# Altium schematic symbol library UOMP_IC.SchLib: 20 symbols
Pins are listed as number, name and electrical type; pins without a type are passive.

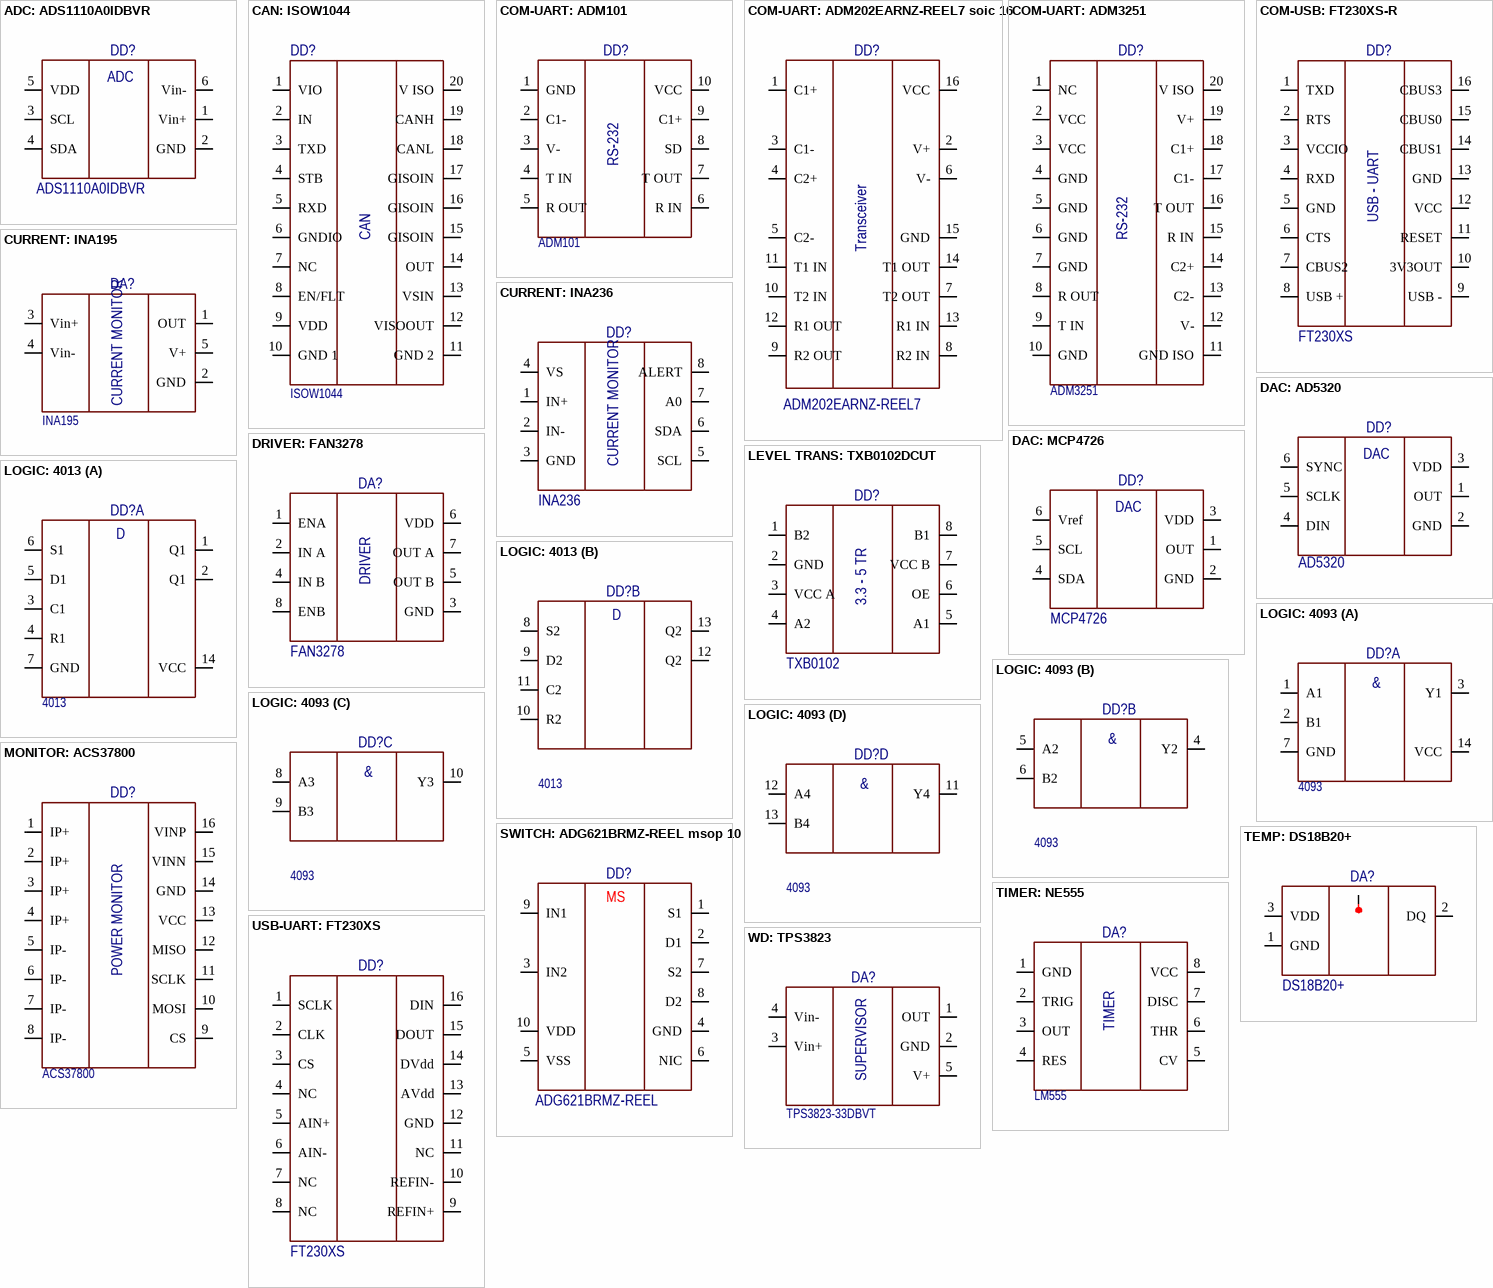
[diagram p0: symbols ADC: ADS1110A0IDBVR to WD: TPS3823]

## ADC: ADS1110A0IDBVR
designator DD?, comment ADS1110A0IDBVR
Name: Микросхема ADS1110A0IDBVR, TI; Code: 6339120701
footprint IC: SOT 23 6pin
pins: 1 Vin+, 2 GND, 3 SCL, 4 SDA, 5 VDD, 6 Vin-
text: ADC

## CAN: ISOW1044
designator DD?, comment ISOW1044
Code: 6349993361; Name: Микросхема ISOW1044DFMR, TI
footprint IC: SOIC 20 wide
pins: 1 VIO, 2 IN, 3 TXD, 4 STB, 5 RXD, 6 GNDIO, 7 NC, 8 EN/FLT, 9 VDD, 10 GND 1, 11 GND 2, 12 VISOOUT, 13 VSIN, 14 OUT, 15 GISOIN, 16 GISOIN, 17 GISOIN, 18 CANL, 19 CANH, 20 V ISO
text: CAN

## COM-UART: ADM101
designator DD?, comment ADM101
Code: 6335421011; Name: Микросхема ADM101EARM, AD
footprint IC: MSOP 10
pins: 1 GND, 2 C1-, 3 V-, 4 T IN, 5 R OUT, 6 R IN, 7 T OUT, 8 SD, 9 C1+, 10 VCC
text: RS-232

## COM-UART: ADM202EARNZ-REEL7 soic 16
designator DD?, comment ADM202EARNZ-REEL7
Code: 6335422203; Name: Микросхема ADM202EARNZ-REEL7
footprint IC: SOIC 16 (SOIC, 16-Leads, Body 10,0x4,0mm (max), Pitch 1,27mm, IPC Medium Density)
pins: 1 C1+, 2 V+, 3 C1-, 4 C2+, 5 C2-, 6 V-, 7 T2 OUT, 8 R2 IN, 9 R2 OUT, 10 T2 IN, 11 T1 IN, 12 R1 OUT, 13 R1 IN, 14 T1 OUT, 15 GND, 16 VCC
text: Transceiver

## COM-UART: ADM3251
designator DD?, comment ADM3251
Code: 6330003941; Name: Микросхема ADM3251EARWZ, AD
footprint IC: SOIC 20 wide
pins: 1 NC, 2 VCC, 3 VCC, 4 GND, 5 GND, 6 GND, 7 GND, 8 R OUT, 9 T IN, 10 GND, 11 GND ISO, 12 V-, 13 C2-, 14 C2+, 15 R IN, 16 T OUT, 17 C1-, 18 C1+, 19  V+, 20 V ISO
text: RS-232

## COM-USB: FT230XS-R
designator DD?, comment FT230XS
Name: Микросхема FT230XS-R, FTDI; Code: 6339109141
footprint IC: SSOP 16
pins: 1 TXD, 2 RTS, 3 VCCIO, 4 RXD, 5 GND, 6 CTS, 7 CBUS2, 8 USB +, 9 USB -, 10 3V3OUT, 11 RESET, 12 VCC, 13 GND, 14 CBUS1, 15 CBUS0, 16 CBUS3
text: USB - UART

## CURRENT: INA195
designator DA?, comment INA195
Code: 6330007391; Name: Микросхема INA195AIDBVT, TI
footprint IC: SOT 23 5pin
pins: 1 OUT, 2 GND, 3 Vin+, 4 Vin-, 5 V+
text: CURRENT MONITOR

## CURRENT: INA236
designator DD?, comment INA236
Code: 633912035; Name: Микросхема INA236AIDDFR, TI
footprint IC: SOT 23 8PIN
pins: 1 IN+, 2 IN-, 3 GND, 4 VS, 5 SCL, 6 SDA, 7 A0, 8 ALERT
text: CURRENT MONITOR

## DAC: AD5320
designator DD?, comment AD5320
Code: 6335415320; Name: Микросхема AD5320BRM
footprint IC: SOT 23 6pin
pins: 1 OUT, 2 GND, 3 VDD, 4 DIN, 5 SCLK, 6 SYNC
text: DAC

## DAC: MCP4726
designator DD?, comment MCP4726
Code: 6339115251; Name: Микросхема MCP4726A0T-E/CH, MCP
footprint IC: SOT 23 6pin
pins: 1 OUT, 2 GND, 3 VDD, 4 SDA, 5 SCL, 6 Vref
text: DAC

## DRIVER: FAN3278
designator DA?, comment FAN3278
Code: 6339115901; Name: Микросхема FAN3278TMX, ONS
footprint IC: SOIC 8
pins: 1 ENA, 2 IN A, 3 GND, 4 IN B, 5 OUT B, 6 VDD, 7 OUT A, 8 ENB
text: DRIVER

## LEVEL TRANS: TXB0102DCUT
designator DD?, comment TXB0102
Code: 6339109131; Name: Микросхема TXB0102DCUT, Texas instruments
footprint IC: PDSO 8
pins: 1 B2, 2 GND, 3 VCC A, 4 A2, 5 A1, 6 OE, 7 VCC B, 8 B1
text: 3.3 - 5 TR

## LOGIC: 4013
designator DD?, comment 4013
D-trigger; Code: 6330002921; Name: Микросхема IW4013BD, ТУ РБ 14513714.005-03-95
footprint IC: SOIC 14
part A pins: 1 Q1, 2 Q1, 3 C1, 4 R1, 5 D1, 6 S1, 7 GND, 14 VCC
part B pins: 8 S2, 9 D2, 10 R2, 11 C2, 12 Q2, 13 Q2
part A text: D
part B text: D

## LOGIC: 4093
designator DD?, comment 4093
&; Code: 6330002931; Name: Микросхема IW4093BD, ТУ РБ 14513714.005-03-95
footprint IC: SOIC 14
part A pins: 1 A1, 2 B1, 3 Y1, 7 GND, 14 VCC
part B pins: 4 Y2, 5 A2, 6 B2
part C pins: 8 A3, 9 B3, 10 Y3
part D pins: 11 Y4, 12 A4, 13 B4

## MONITOR: ACS37800
designator DD?, comment ACS37800
Code: 6339121411; Name: Микросхема ACS37800KMACTR030B3-SPI-A
footprint IC: SOIC 16 WIDE
pins: 1 IP+, 2 IP+, 3 IP+, 4 IP+, 5 IP-, 6 IP-, 7 IP-, 8 IP-, 9 CS, 10 MOSI, 11 SCLK, 12 MISO, 13 VCC, 14 GND, 15 VINN, 16 VINP
text: POWER MONITOR

## SWITCH: ADG621BRMZ-REEL msop 10
designator DD?, comment ADG621BRMZ-REEL
Code: 6335436211; Name: Микросхема ADG621BRMZ-REEL, AD
footprint IC: MSOP 10
pins: 1 S1, 2 D1, 3 IN2, 4 GND, 5 VSS, 6 NIC, 7 S2, 8 D2, 9 IN1, 10 VDD
text: MS

## TEMP: DS18B20+
designator DA?, comment DS18B20+
Code: 6335241824; Name: Микросхема DS18B20+, MAXIM
footprint IC: TO 92
pins: 1 GND, 2 DQ, 3 VDD

## TIMER: NE555
designator DA?, comment LM555
Code: 6335125551; Name: Микросхема LM555CN
footprint IC: SOIC 8
pins: 1 GND, 2 TRIG, 3 OUT, 4 RES, 5 CV, 6 THR, 7 DISC, 8 VCC
text: TIMER

## USB-UART: FT230XS
designator DD?, comment FT230XS
Name: Микросхема FT230XS-R, FTDI; Code: 6339109141
footprint IC: SSOP 16
pins: 1 SCLK, 2 CLK, 3 CS, 4 NC, 5 AIN+, 6 AIN-, 7 NC, 8 NC, 9 REFIN+, 10 REFIN-, 11 NC, 12 GND, 13 AVdd, 14 DVdd, 15 DOUT, 16 DIN

## WD: TPS3823
designator DA?, comment TPS3823-33DBVT
Code: 6330005031; Name: Микросхема TPS3823-33DBVT, TI
footprint IC: SOT 23 5pin
pins: 1 OUT, 2 GND, 3 Vin+, 4 Vin-, 5 V+
text: SUPERVISOR